# EAGLE library part XMC1000-28 (library INF-XMC)
XMC1000 series 28 pin
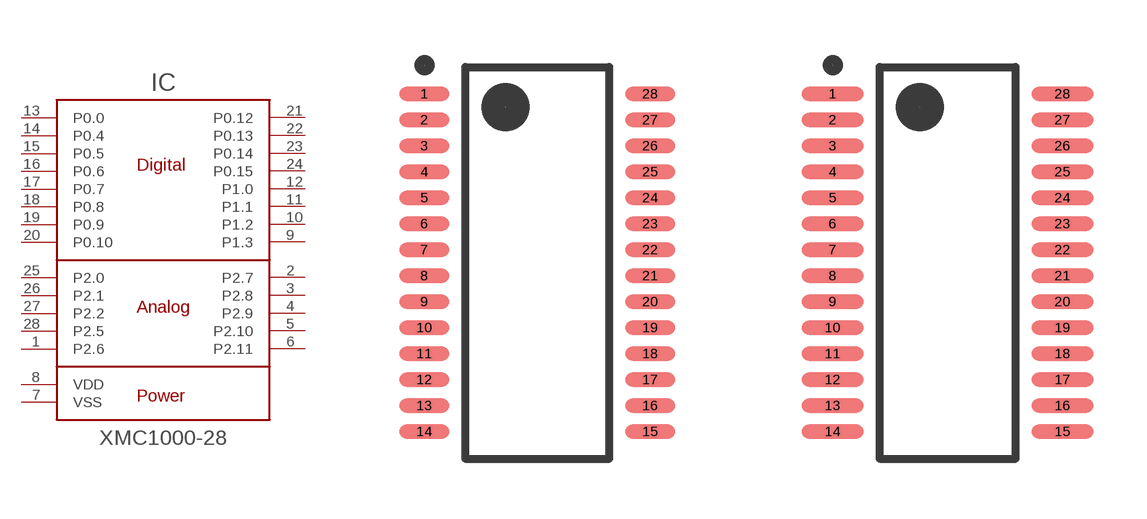
[diagram p9: symbol with the pads of TSSOP-28-1.25; footprints TSSOP-28-1.25, TSSOP-28-1.55]

Designator prefix IC

## XMC1000-28-1.25  [TSSOP-28-1.25]
1  P2.6  in
2  P2.7  in
3  P2.8  in
4  P2.9  in
5  P2.10
6  P2.11
7  VSS  pwr
8  VDD  pwr
9  P1.3
10  P1.2
11  P1.1
12  P1.0
13  P0.0
14  P0.4
15  P0.5
16  P0.6
17  P0.7
18  P0.8
19  P0.9
20  P0.10
21  P0.12
22  P0.13
23  P0.14
24  P0.15
25  P2.0
26  P2.1
27  P2.2  in
28  P2.5  in

## XMC1000-28-1.55  [TSSOP-28-1.55]
Pads as for TSSOP-28-1.25

## Footprint TSSOP-28-1.25 (pad centres in mm)
TSSOP-28 pitch 0.65mm, pads 0.35 x 1.25 mm
smd 1.25 x 0.35: 1 -2.825,4.225; 2 -2.825,3.575; 3 -2.825,2.925; 4 -2.825,2.275; 5 -2.825,1.625; 6 -2.825,0.975; 7 -2.825,0.325; 8 -2.825,-0.325; 9 -2.825,-0.975; 10 -2.825,-1.625; 11 -2.825,-2.275; 12 -2.825,-2.925; 13 -2.825,-3.575; 14 -2.825,-4.225; 15 2.825,-4.225; 16 2.825,-3.575; 17 2.825,-2.925; 18 2.825,-2.275; 19 2.825,-1.625; 20 2.825,-0.975; 21 2.825,-0.325; 22 2.825,0.325; 23 2.825,0.975; 24 2.825,1.625; 25 2.825,2.275; 26 2.825,2.925; 27 2.825,3.575; 28 2.825,4.225

## Footprint TSSOP-28-1.55 (pad centres in mm)
TSSOP-28 pitch 0.65mm, pads .35 x 1.55 mm
smd 1.55 x 0.35: 1 -2.875,4.225; 2 -2.875,3.575; 3 -2.875,2.925; 4 -2.875,2.275; 5 -2.875,1.625; 6 -2.875,0.975; 7 -2.875,0.325; 8 -2.875,-0.325; 9 -2.875,-0.975; 10 -2.875,-1.625; 11 -2.875,-2.275; 12 -2.875,-2.925; 13 -2.875,-3.575; 14 -2.875,-4.225; 15 2.875,-4.225; 16 2.875,-3.575; 17 2.875,-2.925; 18 2.875,-2.275; 19 2.875,-1.625; 20 2.875,-0.975; 21 2.875,-0.325; 22 2.875,0.325; 23 2.875,0.975; 24 2.875,1.625; 25 2.875,2.275; 26 2.875,2.925; 27 2.875,3.575; 28 2.875,4.225